# Altium schematic symbol library Crystal.SchLib: 11 symbols
Pins are listed as number, name and electrical type; pins without a type are passive.

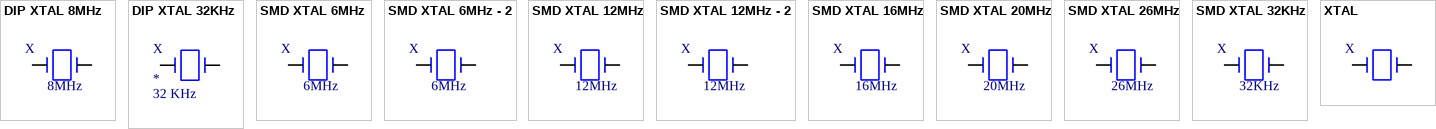
[diagram p0: symbols DIP XTAL 8MHz to XTAL]

## DIP XTAL 8MHz
designator X  value 8MHz  (hidden comment: *)
Manufacturer: TXC; Manufacturer Code: 9B-8.000MEEJ-B; Farnell Code: 1842269; Unit Price: 0,50 €
footprint DIP Crystal
pins: 1, 2

## DIP XTAL 32KHz
designator X  value 32 KHz
footprint 32Khz Crystal
pins: 1, 2

## SMD XTAL 6MHz
designator X  value 6MHz  (hidden comment: *)
Manufacturer Code: HC49SM-6-30-50-60-30-ATF; Manufacturer: MULTICOMP; Farnell Code: 1667011; Unit Price: 0,918 €
footprint SMD Crystal
pins: 1, 2

## SMD XTAL 6MHz - 2
designator X  value 6MHz  (hidden comment: *)
Manufacturer Code: MQ-6.000-12-30/30/-40+85; Manufacturer: MERCURY UNITED ELECTRONICS; Frequency Tolerance: ±30ppm; Load Capacitance: 12pF; Farnell Code: 2509174; Unit Price: 0,886 €; Frequency Stability: ±30ppm; MOQ: 1
footprint SMD Crystal MQ
pins: 1, 3

## SMD XTAL 12MHz
designator X  value 12MHz  (hidden comment: *)
Manufacturer Code: 9C-12.000MEEJ-T; Manufacturer: TXC; Farnell Code: 1842281; Unit Price: 0,56 €
footprint SMD Crystal
pins: 1, 2

## SMD XTAL 12MHz - 2
designator X  value 12MHz  (hidden comment: *)
Manufacturer Code: ABM7-12.000MHZ-D2Y-T; Manufacturer: ABRACON; Frequency Tolerance: ±20ppm; Frequency Stability: ±30ppm; Load Capacitance: 18pF; Farnell Code: 2101331; Unit Price: 0,861 €; MOQ: 1
footprint SMD Crystal ABM7
pins: 1, 2

## SMD XTAL 16MHz
designator X  value 16MHz  (hidden comment: *)
Manufacturer: TXC; Manufacturer Code: 9C-16.000MEEJ-T; Tolerance: ± 10ppm; Load Capacitance: 18pF; Unit Price: 0,60 €; Farnell Code: 1842294
footprint SMD Crystal
pins: 1, 2

## SMD XTAL 20MHz
designator X  value 20MHz  (hidden comment: *)
Manufacturer: TXC; Manufacturer Code: 9C-20.000MEEJ-T; Tolerance: ± 10ppm; Load Capacitance: 18pF; Unit Price: 0,60 €; Farnell Code: 1842303
footprint SMD Crystal
pins: 1, 2

## SMD XTAL 26MHz
designator X  value 26MHz  (hidden comment: *)
Manufacturer: EPSON; Manufacturer Code: X1E0000210147 TSX-3225 26MHZ 9PF; Tolerance: ± 10ppm; Load Capacitance: 9pF; Unit Price: 0,636 €; Farnell Code: 2471849; MOQ: 1
footprint TSX-3225
pins: 1, 3

## SMD XTAL 32KHz
designator X  value 32KHz  (hidden comment: *)
Manufacturer: MICRO CRYSTAL; Manufacturer Code: MS3V-T1R; Tolerance: ± 20ppm; Load Capacitance: 12.5pF; Unit Price: 1,69 €; Farnell Code: 1539368
footprint MS3V-T1R
pins: 1, 3

## XTAL
designator X  (value not drawn)
Value: 12 MHz
footprint Crystal
pins: 1, 2